# Altium integrated library GM-202B.IntLib: 1 symbol
Pins are listed as number, name and electrical type; pins without a type are passive.

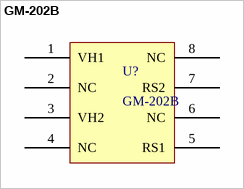
[diagram p0: symbol GM-202B]

## GM-202B
designator U?
Smoke Sensor winson
footprint LCC-8_L5.0-W5.0-P1.27-BL
pins: 1 VH1, 2 NC, 3 VH2, 4 NC, 5 RS1, 6 NC, 7 RS2, 8 NC